# Altium schematic symbol library TPIC6C595D.SchLib: 1 symbol
Pins are listed as number, name and electrical type; pins without a type are passive.

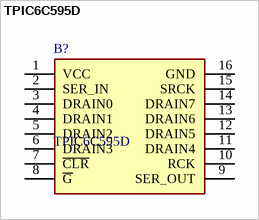
[diagram p0: symbol TPIC6C595D]

## TPIC6C595D
designator B?
Texas Instruments TPIC6C595D 8-stage Shift Register, Serial to Serial/Parallel, 5V, 16-Pin SOIC; Geometry.Height: 1.75mm; Mouser Part Number: 595-TPIC6C595D; Mouser Price/Stock: https://www.mouser.co.uk/ProductDetail/Texas-Instruments/TPIC6C595D?qs=%252BWCn1GN4mVx7%252BsUWaxi9Lw%3D%3D; Manufacturer_Name: Texas Instruments; Manufacturer_Part_Number: TPIC6C595D; Datasheet Link: http://www.ti.com/lit/gpn/TPIC6C595
footprint SOIC127P600X175-16N
pins: 1 VCC, 2 SER_IN, 3 DRAIN0, 4 DRAIN1, 5 DRAIN2, 6 DRAIN3, 7 ~{CLR}, 8 ~{G}, 9 SER_OUT, 10 RCK, 11 DRAIN4, 12 DRAIN5, 13 DRAIN6, 14 DRAIN7, 15 SRCK, 16 GND